# Altium schematic symbol library TPS82671SIPT.SchLib: 1 symbol
Pins are listed as number, name and electrical type; pins without a type are passive.

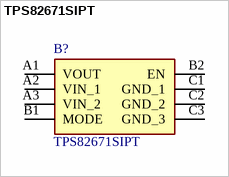
[diagram p0: symbol TPS82671SIPT]

## TPS82671SIPT
designator B?
600mA Fully Integrated, Low Noise Step-Down Converter Module in MicroSiP&#153; Package; Manufacturer_Name: Texas Instruments; Geometry.Height: 1mm; Mouser Part Number: 595-TPS82671SIPT; Mouser Price/Stock: https://www.mouser.co.uk/ProductDetail/Texas-Instruments/TPS82671SIPT?qs=NiBvnJE4bX2ACa61pPv%252B3g%3D%3D; Manufacturer_Part_Number: TPS82671SIPT; Datasheet Link: http://www.ti.com/lit/ds/symlink/tps82671.pdf
footprint BGA8C80P3X3_290X230X100
pins: A1 VOUT, A2 VIN_1, A3 VIN_2, B1 MODE, B2 EN, C1 GND_1, C2 GND_2, C3 GND_3